# EAGLE library part IMU_LSM9DS1 (library custom_rye)
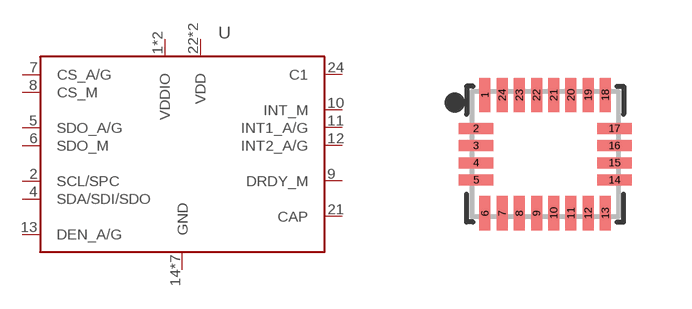
[diagram p0: symbol with the pads of IMU_LSM9DS1; footprint IMU_LSM9DS1]

Designator prefix U

## IMU_LSM9DS1LSM9DS1 (CREATOR: Rye Gleason; DIST: Digikey; DISTPN: 497-14946-1-ND)  [IMU_LSM9DS1]
1  VDDIO  pwr
2  SCL/SPC
3  VDDIO  pwr
4  SDA/SDI/SDO
5  SDO_A/G
6  SDO_M
7  CS_A/G
8  CS_M
9  DRDY_M
10  INT_M
11  INT1_A/G
12  INT2_A/G
13  DEN_A/G
14  GND
15  GND
16  GND
17  GND
18  GND
19  GND
20  GND
21  CAP
22  VDD  pwr
23  VDD  pwr
24  C1

## Footprint IMU_LSM9DS1 (pad centres in mm)
24-QFN, 0.43 mm pitch, 3.00 X 3.50 X 1.03 mm body 24-pin QFN package with 0.43 mm pitch with body size 3.00 X 3.50 X 1.03 mm
smd 0.275 x 0.86: 1 -1.505,1.48; 6 -1.505,-1.48; 7 -1.075,-1.48; 8 -0.645,-1.48; 9 -0.215,-1.48; 10 0.215,-1.48; 11 0.645,-1.48; 12 1.075,-1.48; 13 1.505,-1.48; 18 1.505,1.48; 19 1.075,1.48; 20 0.645,1.48; 21 0.215,1.48; 22 -0.215,1.48; 23 -0.645,1.48; 24 -1.075,1.48
smd 0.86 x 0.275: 2 -1.73,0.645; 3 -1.73,0.215; 4 -1.73,-0.215; 5 -1.73,-0.645; 14 1.73,-0.645; 15 1.73,-0.215; 16 1.73,0.215; 17 1.73,0.645